# EAGLE library part 2831BS-RIGHT-ANGLE (library 2831BS-RIGHT-ANGLE)
Small 3-digit red 7-segment LED display 7 mm high anode common anode common connection Source: Datasheet <http://akizukidenshi.com/download/ds/tekivi/2xx1BS_sq.pdf>
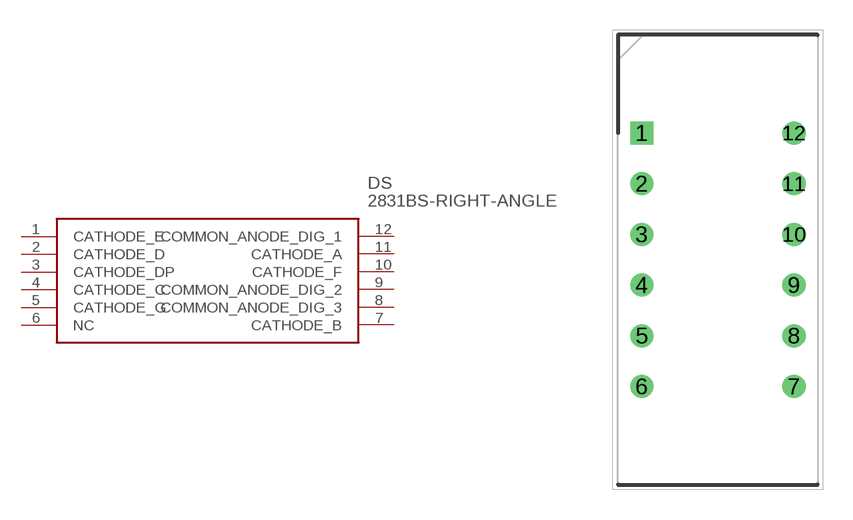
[diagram p0: symbol with the pads of DIPS762W45P254L2253H610Q12N; footprint DIPS762W45P254L2253H610Q12N]

Designator prefix DS

## 2831BS-RIGHT-ANGLE (Description: Small 3-digit red 7-segment LED display 7 mm high anode common anode common connection; Height: 6.1mm; Manufacturer_Name: Shen Zhen Tekivi; Manufacturer_Part_Number: 2831BS-RIGHT-ANGLE)  [DIPS762W45P254L2253H610Q12N]
1  CATHODE_E
2  CATHODE_D
3  CATHODE_DP
4  CATHODE_C
5  CATHODE_G
6  NC  nc
7  CATHODE_B
8  COMMON_ANODE_DIG_3
9  COMMON_ANODE_DIG_2
10  CATHODE_F
11  CATHODE_A
12  COMMON_ANODE_DIG_1

## Footprint DIPS762W45P254L2253H610Q12N (pad centres in mm)
2831BS-RIGHT-ANGLE
drill 0.65 pad 1.05 square: 1 0,0
drill 0.65 pad 1.05: 2 0,-2.54; 3 0,-5.08; 4 0,-7.62; 5 0,-10.16; 6 0,-12.7; 7 7.62,-12.7; 8 7.62,-10.16; 9 7.62,-7.62; 10 7.62,-5.08; 11 7.62,-2.54; 12 7.62,0